# Altium schematic symbol library TVS.SchLib: 1 symbol
Pins are listed as number, name and electrical type; pins without a type are passive.

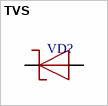
[diagram p0: symbol TVS]

## TVS
designator VD?
pins: 1 C, 2 A